# EAGLE library part CONN:HSMC(ALTERA-HIGH_SPEED_MEZZANINE_CARD) (library QuantumOptics)
HSMC (High Speed Mezzanine Connector) connector, Altera, mezzanine card side, proprietary bus, connector is Samtec ASP-122952-01 on mezzanine card side.
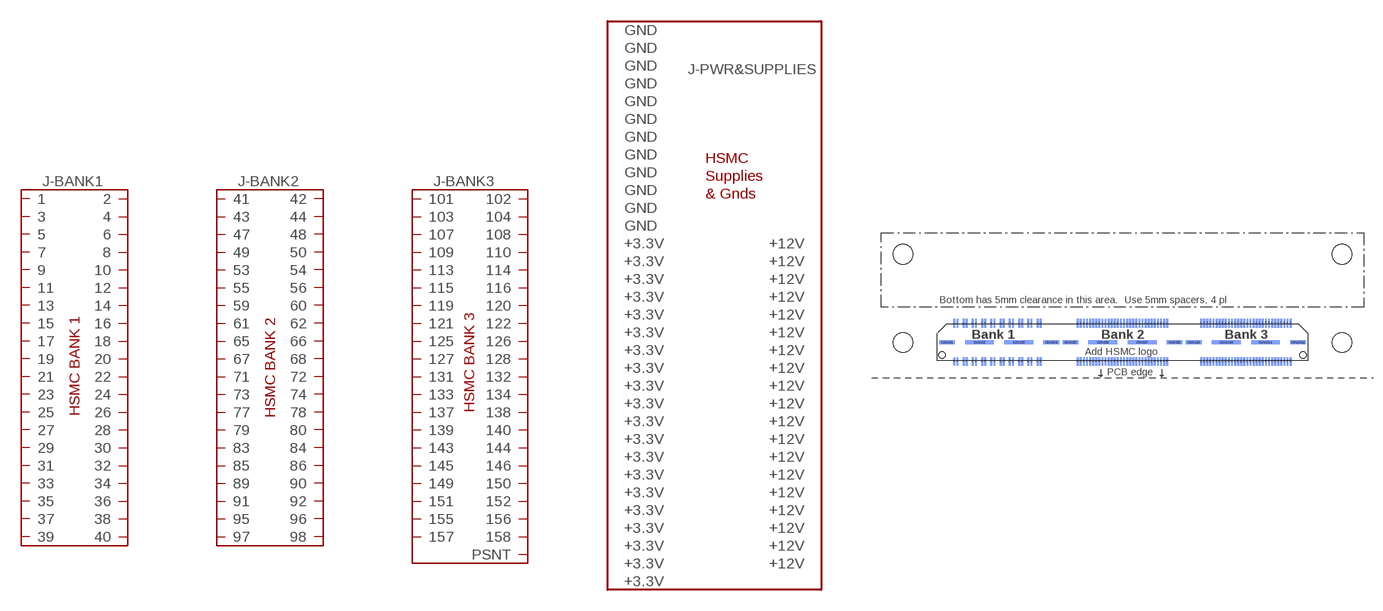
[diagram p146: symbol with the pads of CONN:HSMC(ALTERA-HIGH_SPEED_MEZZANINE_CARD); footprint CONN:HSMC(ALTERA-HIGH_SPEED_MEZZANINE_CARD)]

Designator prefix J; gates -BANK3=CONN:HSMC(ALTERA-HIGH_SPEED_MEZZANINE_CARD)BANK3 -PWR&SUPPLIES=CONN:HSMC(ALTERA-HIGH_SPEED_MEZZANINE_CARD)GND&SUPPLIES -BANK2=CONN:HSMC(ALTERA-HIGH_SPEED_MEZZANINE_CARD)BANK2 -BANK1=CONN:HSMC(ALTERA-HIGH_SPEED_MEZZANINE_CARD)BANK1

## CONN:HSMC(ALTERA-HIGH_SPEED_MEZZANINE_CARD) (MFG: Samtec; PN: ASP-122952-01-1)  [CONN:HSMC(ALTERA-HIGH_SPEED_MEZZANINE_CARD)]
1  -BANK1:1
2  -BANK1:2
3  -BANK1:3
4  -BANK1:4
5  -BANK1:5
6  -BANK1:6
7  -BANK1:7
8  -BANK1:8
9  -BANK1:9
10  -BANK1:10
11  -BANK1:11
12  -BANK1:12
13  -BANK1:13
14  -BANK1:14
15  -BANK1:15
16  -BANK1:16
17  -BANK1:17
18  -BANK1:18
19  -BANK1:19
20  -BANK1:20
21  -BANK1:21
22  -BANK1:22
23  -BANK1:23
24  -BANK1:24
25  -BANK1:25
26  -BANK1:26
27  -BANK1:27
28  -BANK1:28
29  -BANK1:29
30  -BANK1:30
31  -BANK1:31
32  -BANK1:32
33  -BANK1:33
34  -BANK1:34
35  -BANK1:35
36  -BANK1:36
37  -BANK1:37
38  -BANK1:38
39  -BANK1:39
40  -BANK1:40
41  -BANK2:41
42  -BANK2:42
43  -BANK2:43
44  -BANK2:44
45  -PWR&SUPPLIES:+3.3V  pwr
46  -PWR&SUPPLIES:+12V  pwr
47  -BANK2:47
48  -BANK2:48
49  -BANK2:49
50  -BANK2:50
51  -PWR&SUPPLIES:+3.3V  pwr
52  -PWR&SUPPLIES:+12V  pwr
53  -BANK2:53
54  -BANK2:54
55  -BANK2:55
56  -BANK2:56
57  -PWR&SUPPLIES:+3.3V  pwr
58  -PWR&SUPPLIES:+12V  pwr
59  -BANK2:59
60  -BANK2:60
61  -BANK2:61
62  -BANK2:62
63  -PWR&SUPPLIES:+3.3V  pwr
64  -PWR&SUPPLIES:+12V  pwr
65  -BANK2:65
66  -BANK2:66
67  -BANK2:67
68  -BANK2:68
69  -PWR&SUPPLIES:+3.3V  pwr
70  -PWR&SUPPLIES:+12V  pwr
71  -BANK2:71
72  -BANK2:72
73  -BANK2:73
74  -BANK2:74
75  -PWR&SUPPLIES:+3.3V  pwr
76  -PWR&SUPPLIES:+12V  pwr
77  -BANK2:77
78  -BANK2:78
79  -BANK2:79
80  -BANK2:80
81  -PWR&SUPPLIES:+3.3V  pwr
82  -PWR&SUPPLIES:+12V  pwr
83  -BANK2:83
84  -BANK2:84
85  -BANK2:85
86  -BANK2:86
87  -PWR&SUPPLIES:+3.3V  pwr
88  -PWR&SUPPLIES:+12V  pwr
89  -BANK2:89
90  -BANK2:90
91  -BANK2:91
92  -BANK2:92
93  -PWR&SUPPLIES:+3.3V  pwr
94  -PWR&SUPPLIES:+12V  pwr
95  -BANK2:95
96  -BANK2:96
97  -BANK2:97
98  -BANK2:98
99  -PWR&SUPPLIES:+3.3V  pwr
100  -PWR&SUPPLIES:+12V  pwr
101  -BANK3:101
102  -BANK3:102
103  -BANK3:103
104  -BANK3:104
105  -PWR&SUPPLIES:+3.3V  pwr
106  -PWR&SUPPLIES:+12V  pwr
107  -BANK3:107
108  -BANK3:108
109  -BANK3:109
110  -BANK3:110
111  -PWR&SUPPLIES:+3.3V  pwr
112  -PWR&SUPPLIES:+12V  pwr
113  -BANK3:113
114  -BANK3:114
115  -BANK3:115
116  -BANK3:116
117  -PWR&SUPPLIES:+3.3V  pwr
118  -PWR&SUPPLIES:+12V  pwr
119  -BANK3:119
120  -BANK3:120
121  -BANK3:121
122  -BANK3:122
123  -PWR&SUPPLIES:+3.3V  pwr
124  -PWR&SUPPLIES:+12V  pwr
125  -BANK3:125
126  -BANK3:126
127  -BANK3:127
128  -BANK3:128
129  -PWR&SUPPLIES:+3.3V  pwr
130  -PWR&SUPPLIES:+12V  pwr
131  -BANK3:131
132  -BANK3:132
133  -BANK3:133
134  -BANK3:134
135  -PWR&SUPPLIES:+3.3V  pwr
136  -PWR&SUPPLIES:+12V  pwr
137  -BANK3:137
138  -BANK3:138
139  -BANK3:139
140  -BANK3:140
141  -PWR&SUPPLIES:+3.3V  pwr
142  -PWR&SUPPLIES:+12V  pwr
143  -BANK3:143
144  -BANK3:144
145  -BANK3:145
146  -BANK3:146
147  -PWR&SUPPLIES:+3.3V  pwr
148  -PWR&SUPPLIES:+12V  pwr
149  -BANK3:149
150  -BANK3:150
151  -BANK3:151
152  -BANK3:152
153  -PWR&SUPPLIES:+3.3V  pwr
154  -PWR&SUPPLIES:+12V  pwr
155  -BANK3:155
156  -BANK3:156
157  -BANK3:157
158  -BANK3:158
159  -PWR&SUPPLIES:+3.3V  pwr
160  -BANK3:PSNT  pwr
GND1  -PWR&SUPPLIES:GND  pwr
GND2  -PWR&SUPPLIES:GND  pwr
GND3  -PWR&SUPPLIES:GND  pwr
GND4  -PWR&SUPPLIES:GND  pwr
GND5  -PWR&SUPPLIES:GND  pwr
GND6  -PWR&SUPPLIES:GND  pwr
GND7  -PWR&SUPPLIES:GND  pwr
GND8  -PWR&SUPPLIES:GND  pwr
GND9  -PWR&SUPPLIES:GND  pwr
GND10  -PWR&SUPPLIES:GND  pwr
GND11  -PWR&SUPPLIES:GND  pwr
GND12  -PWR&SUPPLIES:GND  pwr

## Footprint CONN:HSMC(ALTERA-HIGH_SPEED_MEZZANINE_CARD) (pad centres in mm)
HSMC (High Speed Mezzanine Connector) connector, Altera, mezzanine card side, proprietary bus, connector is Samtec ASP-122952-01 on mezzanine card side.
smd 0.3 x 1.45 bottom: 1 -27.25,-3.09; 2 -27.25,3.09; 3 -26.75,-3.09; 4 -26.75,3.09; 5 -25.75,-3.09; 6 -25.75,3.09; 7 -25.25,-3.09; 8 -25.25,3.09; 9 -24.25,-3.09; 10 -24.25,3.09; 11 -23.75,-3.09; 12 -23.75,3.09; 13 -22.75,-3.09; 14 -22.75,3.09; 15 -22.25,-3.09; 16 -22.25,3.09; 17 -21.25,-3.09; 18 -21.25,3.09; 19 -20.75,-3.09; 20 -20.75,3.09; 21 -19.75,-3.09; 22 -19.75,3.09; 23 -19.25,-3.09; 24 -19.25,3.09; 25 -18.25,-3.09; 26 -18.25,3.09; 27 -17.75,-3.09; 28 -17.75,3.09; 29 -16.75,-3.09; 30 -16.75,3.09; 31 -16.25,-3.09; 32 -16.25,3.09; 33 -15.25,-3.09; 34 -15.25,3.09; 35 -14.75,-3.09; 36 -14.75,3.09; 37 -13.75,-3.09; 38 -13.75,3.09; 39 -13.25,-3.09; 40 -13.25,3.09; 41 -7.25,-3.09; 42 -7.25,3.09; 43 -6.75,-3.09; 44 -6.75,3.09; 45 -6.25,-3.09; 46 -6.25,3.09; 47 -5.75,-3.09; 48 -5.75,3.09; 49 -5.25,-3.09; 50 -5.25,3.09; 51 -4.75,-3.09; 52 -4.75,3.09; 53 -4.25,-3.09; 54 -4.25,3.09; 55 -3.75,-3.09; 56 -3.75,3.09; 57 -3.25,-3.09; 58 -3.25,3.09; 59 -2.75,-3.09; 60 -2.75,3.09; 61 -2.25,-3.09; 62 -2.25,3.09; 63 -1.75,-3.09; 64 -1.75,3.09; 65 -1.25,-3.09; 66 -1.25,3.09; 67 -0.75,-3.09; 68 -0.75,3.09; 69 -0.25,-3.09; 70 -0.25,3.09; 71 0.25,-3.09; 72 0.25,3.09; 73 0.75,-3.09; 74 0.75,3.09; 75 1.25,-3.09; 76 1.25,3.09; 77 1.75,-3.09; 78 1.75,3.09; 79 2.25,-3.09; 80 2.25,3.09; 81 2.75,-3.09; 82 2.75,3.09; 83 3.25,-3.09; 84 3.25,3.09; 85 3.75,-3.09; 86 3.75,3.09; 87 4.25,-3.09; 88 4.25,3.09; 89 4.75,-3.09; 90 4.75,3.09; 91 5.25,-3.09; 92 5.25,3.09; 93 5.75,-3.09; 94 5.75,3.09; 95 6.25,-3.09; 96 6.25,3.09; 97 6.75,-3.09; 98 6.75,3.09; 99 7.25,-3.09; 100 7.25,3.09; 101 12.75,-3.09; 102 12.75,3.09; 103 13.25,-3.09; 104 13.25,3.09; 105 13.75,-3.09; 106 13.75,3.09; 107 14.25,-3.09; 108 14.25,3.09; 109 14.75,-3.09; 110 14.75,3.09; 111 15.25,-3.09; 112 15.25,3.09; 113 15.75,-3.09; 114 15.75,3.09; 115 16.25,-3.09; 116 16.25,3.09; 117 16.75,-3.09; 118 16.75,3.09; 119 17.25,-3.09; 120 17.25,3.09; 121 17.75,-3.09; 122 17.75,3.09; 123 18.25,-3.09; 124 18.25,3.09; 125 18.75,-3.09; 126 18.75,3.09; 127 19.25,-3.09; 128 19.25,3.09; 129 19.75,-3.09; 130 19.75,3.09; 131 20.25,-3.09; 132 20.25,3.09; 133 20.75,-3.09; 134 20.75,3.09; 135 21.25,-3.09; 136 21.25,3.09; 137 21.75,-3.09; 138 21.75,3.09; 139 22.25,-3.09; 140 22.25,3.09; 141 22.75,-3.09; 142 22.75,3.09; 143 23.25,-3.09; 144 23.25,3.09; 145 23.75,-3.09; 146 23.75,3.09; 147 24.25,-3.09; 148 24.25,3.09; 149 24.75,-3.09; 150 24.75,3.09; 151 25.25,-3.09; 152 25.25,3.09; 153 25.75,-3.09; 154 25.75,3.09; 155 26.25,-3.09; 156 26.25,3.09; 157 26.75,-3.09; 158 26.75,3.09; 159 27.25,-3.09; 160 27.25,3.09
smd 2.54 x 0.635 bottom: GND1 -28.448,0; GND4 -11.557,0; GND5 -8.445,0; GND8 8.445,0; GND9 11.557,0; GND12 28.448,0
smd 4.699 x 0.635 bottom: GND2 -23.177,0; GND3 -16.828,0; GND6 -3.175,0; GND7 3.175,0; GND10 16.827,0; GND11 23.177,0
hole 1.067 at 29.24,-2.032
hole 1.067 at -29.24,-2.032
hole 3.175 at -35.56,0
hole 3.175 at 35.56,0
hole 3.175 at -35.56,14.3
hole 3.175 at 35.56,14.3